# EAGLE library part IN-8 (library nixietubes-russian)
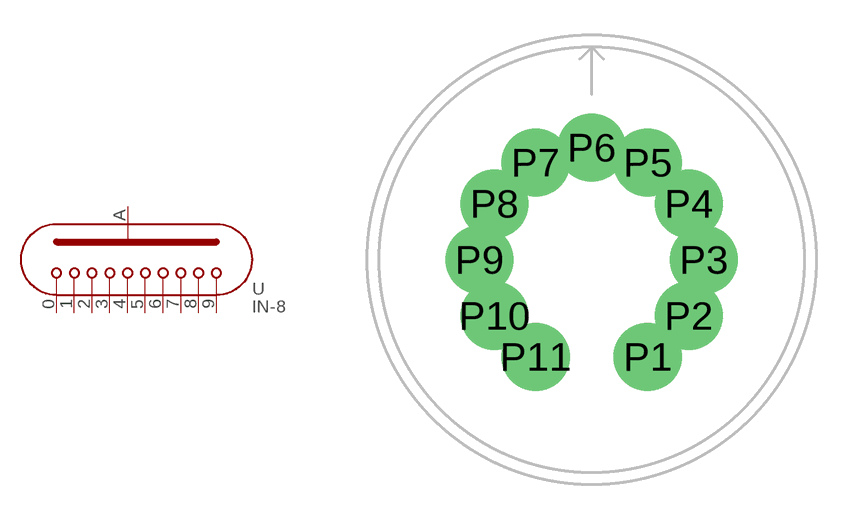
[diagram p3: symbol with the pads of IN-8; footprint IN-8]

Designator prefix -

## IN-8  [IN-8]
P1  1
P2  2
P3  3
P4  4
P5  5
P6  6
P7  7
P8  8
P9  9
P10  0
P11  A

## Footprint IN-8 (pad centres in mm)
This is the footprint suitable for the following nixie tubes: * IN-8 Tube diameter: 19mm Height from PCB: 55mm Symbol Height: 18mm
drill 1.93 pad 2.2: P1 2.375,-4.114; P2 4.114,-2.375; P3 4.75,0; P4 4.114,2.375; P5 2.375,4.114; P6 0,4.75; P7 -2.375,4.114; P8 -4.114,2.375; P9 -4.75,0; P10 -4.114,-2.375; P11 -2.375,-4.114